# Altium schematic symbol library MCU.SchLib: 2 symbols
Pins are listed as number, name and electrical type; pins without a type are passive.

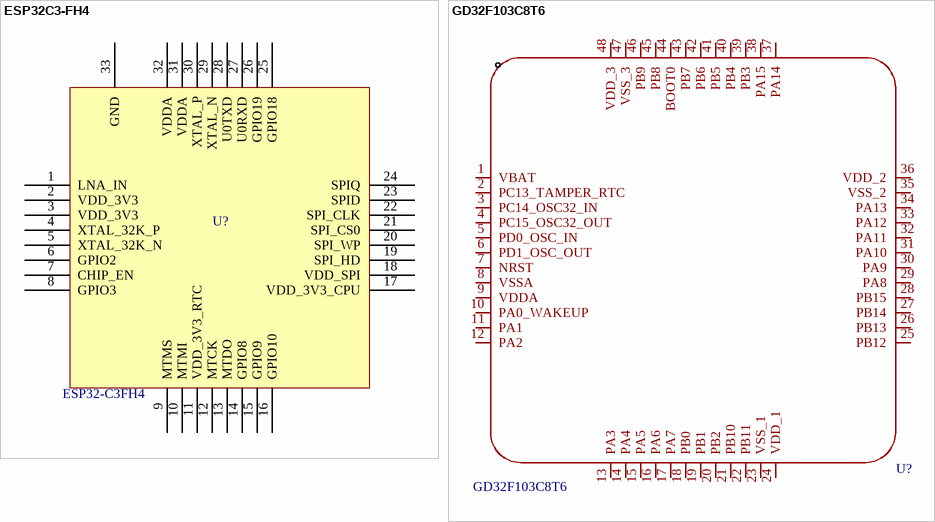
[diagram p0: symbols ESP32C3-FH4 to GD32F103C8T6]

## ESP32C3-FH4
designator U?, comment ESP32-C3FH4
ESP32C3-FH4; Brand: ESPRESSIF(乐鑫); Product ID: C2858491; Remark: MCU; Package: QFN-32-EP(5x5); Model: ESP32-C3FH4
footprint ESP32C3-FH4_QFN32-EP
pins: 1 LNA_IN, 2 VDD_3V3, 3 VDD_3V3, 4 XTAL_32K_P, 5 XTAL_32K_N, 6 GPIO2, 7 CHIP_EN, 8 GPIO3, 9 MTMS, 10 MTMI, 11 VDD_3V3_RTC, 12 MTCK, 13 MTDO, 14 GPIO8, 15 GPIO9, 16 GPIO10, 17 VDD_3V3_CPU, 18 VDD_SPI, 19 SPI_HD, 20 SPI_WP, 21 SPI_CS0, 22 SPI_CLK, 23 SPID, 24 SPIQ, 25 GPIO18, 26 GPIO19, 27 U0RXD, 28 U0TXD, 29 XTAL_N, 30 XTAL_P, 31 VDDA, 32 VDDA, 33 GND

## GD32F103C8T6
designator U?
Brand: GigaDevice(兆易创新); Product ID: C77994; Remark: MCU; Package: LQFP-48(7x7); Model: GD32F103C8T6
footprint TQFP-48_L7.0-W7.0-P0.50-LS9.0-BL (Footprint not found)
pins: 1 VBAT, 2 PC13_TAMPER_RTC, 3 PC14_OSC32_IN, 4 PC15_OSC32_OUT, 5 PD0_OSC_IN, 6 PD1_OSC_OUT, 7 NRST, 8 VSSA, 9 VDDA, 10 PA0_WAKEUP, 11 PA1, 12 PA2, 13 PA3, 14 PA4, 15 PA5, 16 PA6, 17 PA7, 18 PB0, 19 PB1, 20 PB2, 21 PB10, 22 PB11, 23 VSS_1, 24 VDD_1, 25 PB12, 26 PB13, 27 PB14, 28 PB15, 29 PA8, 30 PA9, 31 PA10, 32 PA11, 33 PA12, 34 PA13, 35 VSS_2, 36 VDD_2, 37 PA14, 38 PA15, 39 PB3, 40 PB4, 41 PB5, 42 PB6, 43 PB7, 44 BOOT0, 45 PB8, 46 PB9, 47 VSS_3, 48 VDD_3